# Altium footprint library 元器件.PCBLIB: 210 footprints (part 4 of 14)
Each footprint in its own frame and in the unit in brackets; x right, y up, seen from the top. Pads: shape width x height; smd on the part's side, far side on the other; paste and mask are expansions set on the pad; w line width, h text height; cw(c..) or ccw(c..) is an arc to the next point about the centre after c.
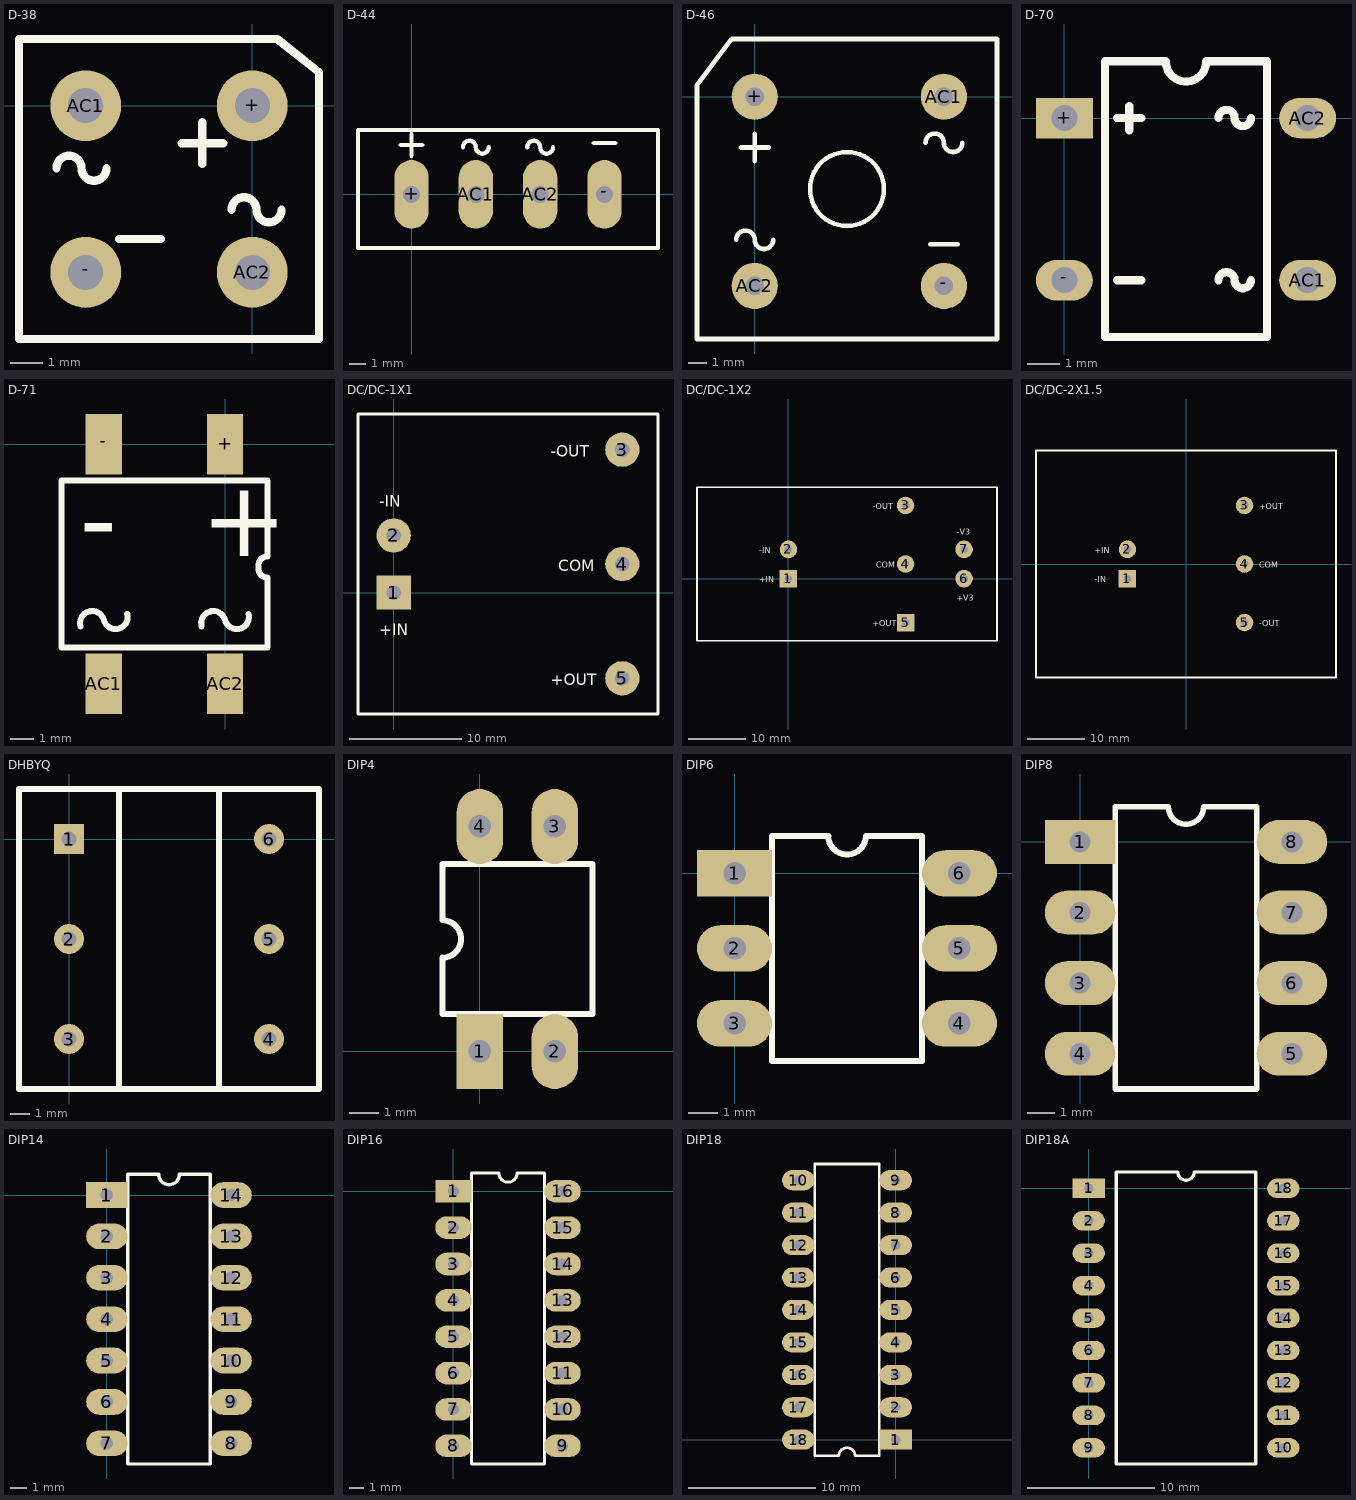
[diagram p3: the footprints below, top view; thin cyan lines are the x and y axes]

## D-38 [mil]
pads (4):
  round 85 hole 42: +(0,0) -(-200,-200) AC1(-200,0) AC2(0,-200)
TopOverlay:
  lines w10: -235,-75 cw(c-220,-75) -205,-75 ccw(c-190,-75) -175,-75 ; -160,-160 -110,-160 ; -85,-45 -35,-45 ; -60,-70 -60,-20 ; -25,-125 cw(c-10,-125) 5,-125 ccw(c20,-125) 35,-125 ; -280,-280 80,-280 80,40 30,80 -280,80 -280,-280

## D-44 [mil]
pads (4):
  oval 80x160 hole 40: +(0,0) -(450,0) AC1(150,0) AC2(300,0)
TopOverlay:
  lines w10: -25,115 25,115 ; 0,90 0,140 ; 120,110 cw(c135,110) 150,110 ccw(c165,110) 180,110 ; 270,110 cw(c285,110) 300,110 ccw(c315,110) 330,110 ; 425,120 475,120 ; -125,-125 575,-125 575,150 -125,150 -125,-125

## D-46 [mil]
pads (4):
  round 100 hole 40: +(0,0) -(410,-410) AC1(410,0) AC2(0,-410)
TopOverlay:
  circle w10: c200,-200 r80
  lines w10: -40,-310 cw(c-20,-310) 0,-310 ccw(c20,-310) 40,-310 ; -30,-110 30,-110 ; 0,-140 0,-80 ; 370,-100 cw(c390,-100) 410,-100 ccw(c430,-100) 450,-100 ; 380,-320 410,-320 440,-320 ; -125,-525 -125,25 -50,125 525,125 525,-525 -125,-525

## D-70 [mil]
pads (4):
  rect 70x50 hole 32: +(0,0)
  oval 70x50 hole 32: -(0,-200) AC1(300,-200) AC2(300,0)
TopOverlay:
  lines w10: 65,-200 95,-200 ; 65,0 95,0 ; 80,-15 80,15 ; 190,-200 cw(c200,-200) 210,-200 ccw(c220,-200) 230,-200 ; 190,0 cw(c200,0) 210,0 ccw(c220,0) 230,0 ; 50,-270 50,70 125,70 ccw(c150,70) 175,70 250,70 250,-270 50,-270

## D-71 [mil]
pads (4):
  rect 60x100 smd: +(0,0) -(-200,0) AC1(-200,-395) AC2(0,-395)
TopOverlay:
  lines w10: -238.64,-300.35 cw(c-219.32,-295.18) -200,-290 ccw(c-180.68,-284.82) -161.36,-279.65 ; -38.64,-300.35 cw(c-19.32,-295.18) 0,-290 ccw(c19.32,-284.82) 38.64,-279.65 ; 70,-335 ccw(c70,-335) 70,-335 ; 70,-335 -270,-335 -270,-60 70,-60 70,-185 ccw(c70,-200) 55,-200 55,-205 ccw(c70,-205) 70,-220 70,-335
  text "-" at -240,-185 h125
  text "+" at -40,-185 h125

## DC/DC-1X1 [mil]
pads (5):
  rect 120x120 hole 51: 1(0,0)
  round 120 hole 51: 2(0,200) 3(800,500) 4(800,100) 5(800,-300)
TopOverlay:
  lines w12: -125,-425 -125,625 925,625 925,-425 -125,-425
  text "+OUT" at 550,-325 h40
  text "-OUT" at 550,475 h40
  text "COM" at 575,75 h40
  text "+IN" at -50,-150 h40
  text "-IN" at -50,300 h40

## DC/DC-1X2 [mil]
pads (7):
  rect 120x120 hole 51: 1(0,0) 5(800,-300)
  round 120 hole 51: 2(0,200) 3(800,500) 4(800,100) 6(1200,0) 7(1200,200)
TopOverlay:
  lines w12: -625,-425 1425,-425 1425,625 -625,625 -625,-425
  text "-IN" at -200,175 h40
  text "+IN" at -200,-25 h40
  text "-OUT" at 575,475 h40
  text "+OUT" at 575,-325 h40
  text "COM" at 600,75 h40
  text "-V3" at 1150,300 h40
  text "+V3" at 1150,-150 h40

## DC/DC-2X1.5 [mil]
pads (5):
  rect 120x120 hole 51: 1(-400,-100)
  round 120 hole 51: 2(-400,100) 3(400,400) 4(400,0) 5(400,-400)
TopOverlay:
  lines w12: -1025,-775 -1025,775 1025,775 1025,-775 -1025,-775
  text "COM" at 500,-25 h40
  text "+OUT" at 500,375 h40
  text "-OUT" at 500,-425 h40
  text "+IN" at -625,75 h40
  text "-IN" at -625,-125 h40

## DHBYQ [mil]
pads (6):
  rect 60x60 hole 30: 1(0,0)
  round 60 hole 30: 2(0,-200) 3(0,-400) 4(400,-400) 5(400,-200) 6(400,0)
TopOverlay:
  lines w12: 100,-500 100,100 ; 300,-500 300,100 ; -100,-500 -100,100 500,100 500,-500 -100,-500

## DIP4 [mil]
pads (4):
  rect 62x100 hole 30: 1(0,0)
  oval 62x100 hole 30: 2(100,0) 3(100,300) 4(0,300)
TopOverlay:
  lines w8: -50,50 -50,125 ccw(c-50,150) -50,175 -50,250 150,250 150,50 -50,50

## DIP6 [mil]
pads (6):
  rect 100x62 hole 30: 1(0,0)
  oval 100x62 hole 30: 2(0,-100) 3(0,-200) 4(300,-200) 5(300,-100) 6(300,0)
TopOverlay:
  lines w8: 50,-250 250,-250 250,50 175,50 cw(c150,50) 125,50 50,50 50,-250

## DIP8 [mil]
pads (8):
  rect 100x62 hole 30: 1(0,0)
  oval 100x62 hole 30: 2(0,-100) 3(0,-200) 4(0,-300) 5(300,-300) 6(300,-200) 7(300,-100) 8(300,0)
TopOverlay:
  lines w8: 50,-350 50,50 125,50 ccw(c150,50) 175,50 250,50 250,-350 50,-350

## DIP14 [mil]
pads (14):
  rect 100x62 hole 30: 1(0,0)
  oval 100x62 hole 30: 2(0,-100) 3(0,-200) 4(0,-300) 5(0,-400) 6(0,-500) 7(0,-600) 8(300,-600) 9(300,-500) 10(300,-400) 11(300,-300) 12(300,-200) 13(300,-100) 14(300,0)
TopOverlay:
  lines w8: 50,-650 250,-650 250,50 175,50 cw(c150,50) 125,50 50,50 50,-650

## DIP16 [mil]
pads (16):
  rect 100x62 hole 30: 1(0,0)
  oval 100x62 hole 30: 2(0,-100) 3(0,-200) 4(0,-300) 5(0,-400) 6(0,-500) 7(0,-600) 8(0,-700) 9(300,-700) 10(300,-600) 11(300,-500) 12(300,-400) 13(300,-300) 14(300,-200) 15(300,-100) 16(300,0)
TopOverlay:
  lines w8: 50,-750 50,50 125,50 ccw(c150,50) 175,50 250,50 250,-750 50,-750

## DIP18 [mil]
pads (18):
  rect 100x62 hole 30: 1(0,0)
  oval 100x62 hole 30: 2(0,100) 3(0,200) 4(0,300) 5(0,400) 6(0,500) 7(0,600) 8(0,700) 9(0,800) 10(-300,800) 11(-300,700) 12(-300,600) 13(-300,500) 14(-300,400) 15(-300,300) 16(-300,200) 17(-300,100) 18(-300,0)
TopOverlay:
  lines w8: -250,-50 -250,850 -50,850 -50,-50 -125,-50 ccw(c-150,-50) -175,-50 -250,-50

## DIP18A [mil]
pads (18):
  rect 100x60 hole 30: 1(0,0)
  oval 100x60 hole 30: 2(0,-100) 3(0,-200) 4(0,-300) 5(0,-400) 6(0,-500) 7(0,-600) 8(0,-700) 9(0,-800) 10(600,-800) 11(600,-700) 12(600,-600) 13(600,-500) 14(600,-400) 15(600,-300) 16(600,-200) 17(600,-100) 18(600,0)
TopOverlay:
  lines w10: 85,-850 515,-850 515,50 325,50 cw(c300,50) 275,50 85,50 85,-850